# Altium footprint library SWITCH_SMT.PcbLib: 1 footprints
Each footprint in its own frame and in the unit in brackets; x right, y up, seen from the top. Pads: shape width x height; smd on the part's side, far side on the other; paste and mask are expansions set on the pad; w line width, h text height; cw(c..) or ccw(c..) is an arc to the next point about the centre after c.
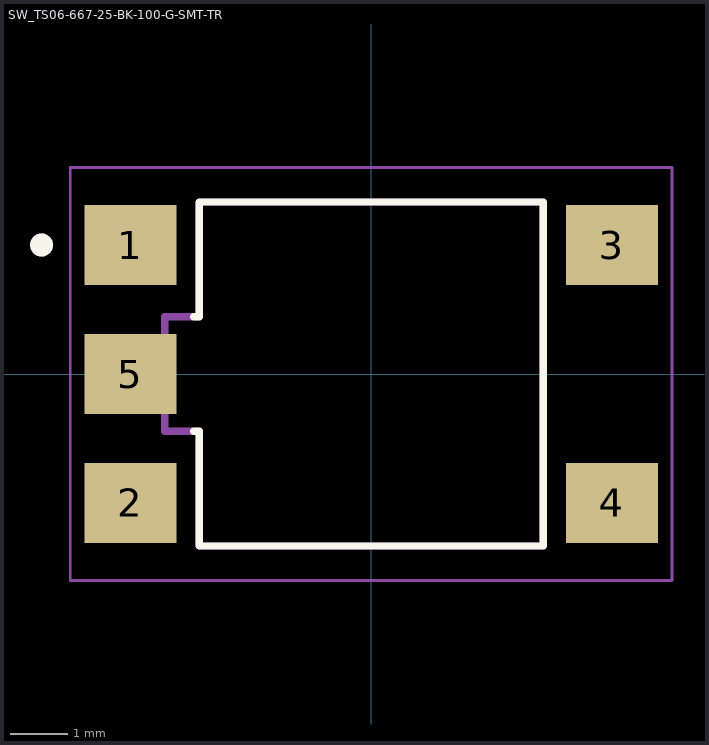
[diagram p0: the footprint, top view; thin cyan lines are the x and y axes]

## SW_TS06-667-25-BK-100-G-SMT-TR [mm]
pads (5):
  rect 1.6x1.4 smd: 1(-4.2,2.25) 2(-4.2,-2.25) 3(4.2,2.25) 4(4.2,-2.25) 5(-4.2,0)
Top Overlay:
  circle w0.2: c-5.75,2.25 r0.1
  lines w0.127: -3.1,-1 -3,-1 -3,-3 3,-3 3,3 -3,3 -3,1 -3.1,1
Mechanical 13:
  circle w0.2: c-5.75,2.25 r0.1
  lines w0.127: -3.6,-1 -3,-1 -3,-3 3,-3 3,3 -3,3 -3,1 -3.6,1 -3.6,-1
Mechanical 15:
  lines w0.05: -5.25,-3.6 5.25,-3.6 5.25,3.6 -5.25,3.6 -5.25,-3.6
3D body "TS06-667-25-BK-100-G-SMT-TR.STEP": height 2.58, standoff -0.02, extent -4.2,-3.35 4.2,3.35